# Altium schematic symbol library Switch_Littelfuse_MDSR-4-12-23_eec.SchLib: 1 symbol
Pins are listed as number, name and electrical type; pins without a type are passive.

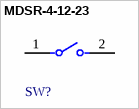
[diagram p0: symbol MDSR-4-12-23]

## MDSR-4-12-23
designator SW?  (value not drawn)
footprint Littelfuse_MDSR-4_MFG
pins: 1, 2